# Altium footprint library CE_G_10X10MM.PcbLib: 1 footprints
Each footprint in its own frame and in the unit in brackets; x right, y up, seen from the top. Pads: shape width x height; smd on the part's side, far side on the other; paste and mask are expansions set on the pad; w line width, h text height; cw(c..) or ccw(c..) is an arc to the next point about the centre after c.
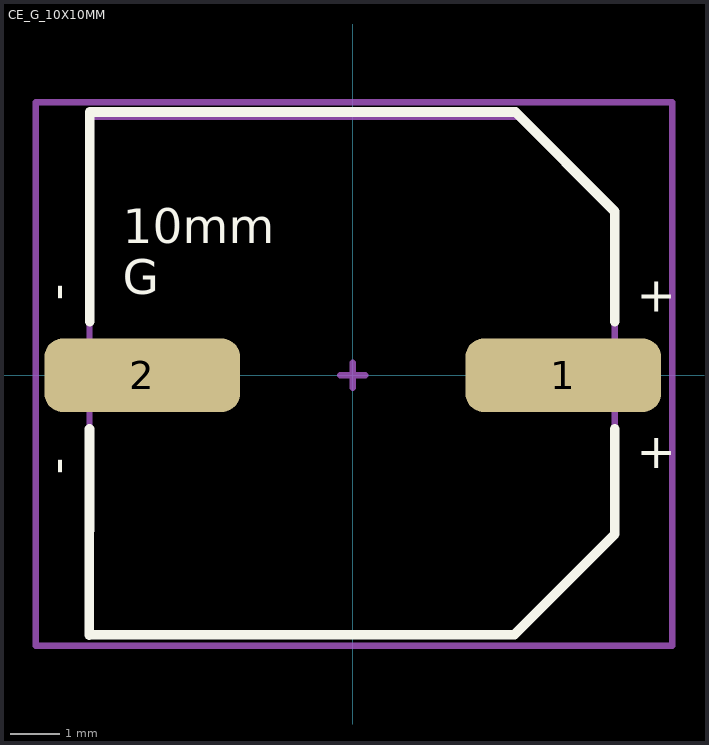
[diagram p0: the footprint, top view; thin cyan lines are the x and y axes]

## CE_G_10X10MM [mm] "Electrolytic Capacitor 10mm Diamater"
height 10
pads (2):
  rrect50% 4x1.5 smd: 1(4.3,0) 2(-4.3,0)
Top Overlay:
  lines w0.2: -5.378,-1.1 -5.384,-5.304 3.302,-5.298 5.35,-3.25 5.35,-1.1 ; -5.375,1.1 -5.375,5.375 3.325,5.375 5.35,3.35 5.35,1.1
  text "10mm / G" at -4.699,1.651 h0.7
  text "+" at 5.8,1.3 h0.7
  text "+" at 5.8,-1.9 h0.7
  text "-" at -5.715,1.524 h0.7
  text "-" at -5.715,-2.032 h0.7
Top Assembly:
  lines w0.127: -5.378,-5.304 3.296,-5.304 5.35,-3.25 5.35,3.375 3.45,5.275 -5.378,5.275 -5.378,-5.304
Top Courtyard:
  lines w0.127: -0.254,0 0.254,0 ; 0,-0.254 0,0.254 ; -6.475,-5.525 6.525,-5.525 6.525,5.575 -6.475,5.575 -6.475,-5.525
3D body "User Library-ALU-G13.step": height 14, standoff 0, extent -6.15,-5.25 6.15,5.25